# Altium schematic symbol library ICP-1010X.SchLib: 1 symbol
Pins are listed as number, name and electrical type; pins without a type are passive.

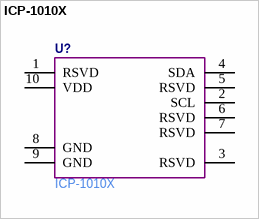
[diagram p0: symbol ICP-1010X]

## ICP-1010X
designator U?  Manufacturer Part Number: ICP-1010X  (hidden comment: *)
pins: 1 RSVD, 2 SCL, 3 RSVD, 4 SDA, 5 RSVD, 6 RSVD, 7 RSVD, 8 GND, 9 GND, 10 VDD